# Altium schematic symbol library ESD9R3.3ST5G.SchLib: 1 symbol
Pins are listed as number, name and electrical type; pins without a type are passive.

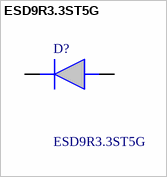
[diagram p0: symbol ESD9R3.3ST5G]

## ESD9R3.3ST5G
designator D?
Low Body Height: 0.016 (0.4 mm); Small Body Outline Dimensions: 0.039 x 0.024 (1.00 mm x 0.60 mm); UltraLow Leakage < 1 nA; UltraLow Capacitance 0.5 pF; Low Clamping Voltage; Standoff Voltage: 3.3 V; Response Time < 1.0 ns; IEC6100042 Level 4 ESD Protection; This is a PbFree and HalogenFree Device; Manufacturer_Name: onsemi; Geometry.Height: 0.4mm; Mouser Part Number: 863-ESD9R3.3ST5G; Mouser Price/Stock: https://www.mouser.co.uk/ProductDetail/onsemi/ESD9R3.3ST5G?qs=N5dOQkml4H9504itvxWhoA%3D%3D; Manufacturer_Part_Number: ESD9R3.3ST5G; Datasheet Link: https://www.onsemi.com/pub/Collateral/ESD9R3.3S-D.PDF
footprint SODFL1006X40N
pins: 1 K, 2 A